# EAGLE library part INA228AIDGSR (library INA228AIDGSR)
Current & Power Monitors & Regulators 85-V, 20-bit, ultra-precise, I2C output current/voltage/power/energy/charge monitor with alert Source: Datasheet <https://www.ti.com/general/docs/suppproductinfo.tsp?distId=10&gotoUrl=http://www.ti.com/lit/gpn/ina228>
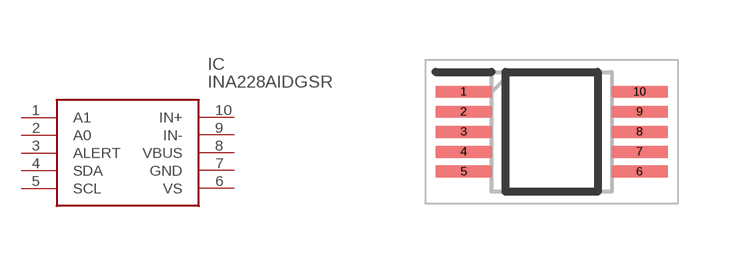
[diagram p0: symbol with the pads of SOP50P490X110-10N; footprint SOP50P490X110-10N]

Designator prefix IC

## INA228AIDGSR (Description: Current & Power Monitors & Regulators 85-V, 20-bit, ultra-precise, I2C output current/voltage/power/energy/charge monitor with alert</p; Height: 1.1mm; Manufacturer_Name: Texas Instruments; Manufacturer_Part_Number: INA228AIDGSR; Mouser_Part_Number: 595-INA228AIDGSR; Mouser_Price-Stock: https://www.mouser.co.uk/ProductDetail/Texas-Instruments/INA228AIDGSR?qs=pUKx8fyJudB2qGvt%252BmXPAg%3D%3D)  [SOP50P490X110-10N]
1  A1
2  A0
3  ALERT
4  SDA
5  SCL
6  VS
7  GND
8  VBUS
9  IN-
10  IN+

## Footprint SOP50P490X110-10N (pad centres in mm)
DGS0010A HEIGHT=1.1
smd 1.4 x 0.3: 1 -2.2,1; 2 -2.2,0.5; 3 -2.2,0; 4 -2.2,-0.5; 5 -2.2,-1; 6 2.2,-1; 7 2.2,-0.5; 8 2.2,0; 9 2.2,0.5; 10 2.2,1